# Altium footprint library CAPAE5500X600.PcbLib: 1 footprints
Each footprint in its own frame and in the unit in brackets; x right, y up, seen from the top. Pads: shape width x height; smd on the part's side, far side on the other; paste and mask are expansions set on the pad; w line width, h text height; cw(c..) or ccw(c..) is an arc to the next point about the centre after c.
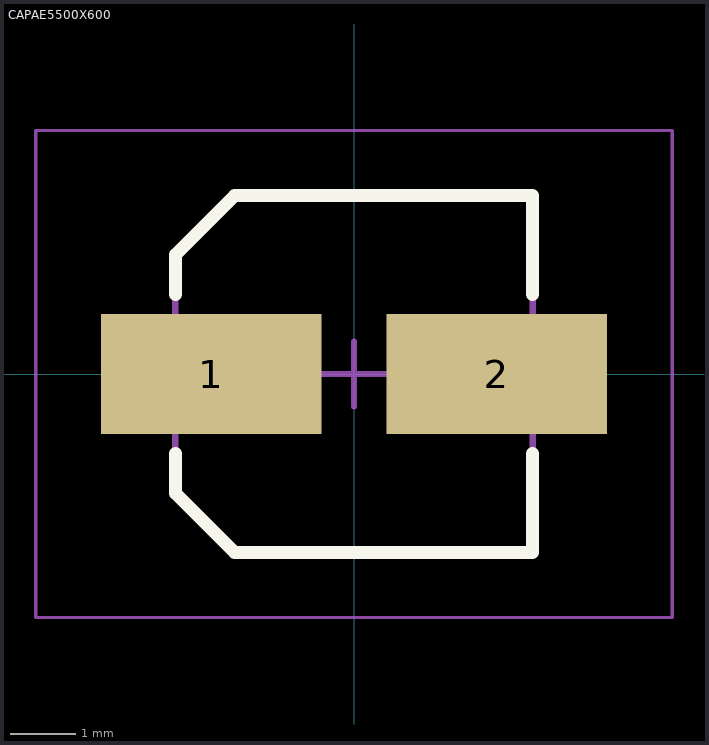
[diagram p0: the footprint, top view; thin cyan lines are the x and y axes]

## CAPAE5500X600 [mm] "Aluminum Electrolytic Capacitor, Body 5,30x5,30x6,00mm, IPC Low Density"
height 6
pads (2):
  rect 3.4x1.85 smd: 1(-2.2,0) 2(2.2,0)
Top Overlay:
  lines w0.2: -2.75,-1.225 -2.75,-1.837 -1.837,-2.75 2.75,-2.75 2.75,-1.225 ; -2.75,1.225 -2.75,1.837 -1.837,2.75 2.75,2.75 2.75,1.225
3D Body:
  lines w0.1: -2.75,-1.822 -2.75,1.837 -1.837,2.75 2.75,2.75 2.75,-2.75 -1.822,-2.75 -2.75,-1.822
Board:
  lines w0.05: -4.9,-3.75 4.9,-3.75 4.9,3.75 -4.9,3.75 -4.9,-3.75
  lines w0.1: -0.5,0 0.5,0 ; 0,-0.5 0,0.5
3D body: height 6, standoff 0, extent -2.75,-2.75 2.75,2.75
3D body: height 2, standoff 0, extent -2.75,-2.75 2.75,2.75